# Altium footprint library TEST&JUMPER.PcbLib: 47 footprints (part 3 of 3)
Each footprint in its own frame and in the unit in brackets; x right, y up, seen from the top. Pads: shape width x height; smd on the part's side, far side on the other; paste and mask are expansions set on the pad; w line width, h text height; cw(c..) or ccw(c..) is an arc to the next point about the centre after c.
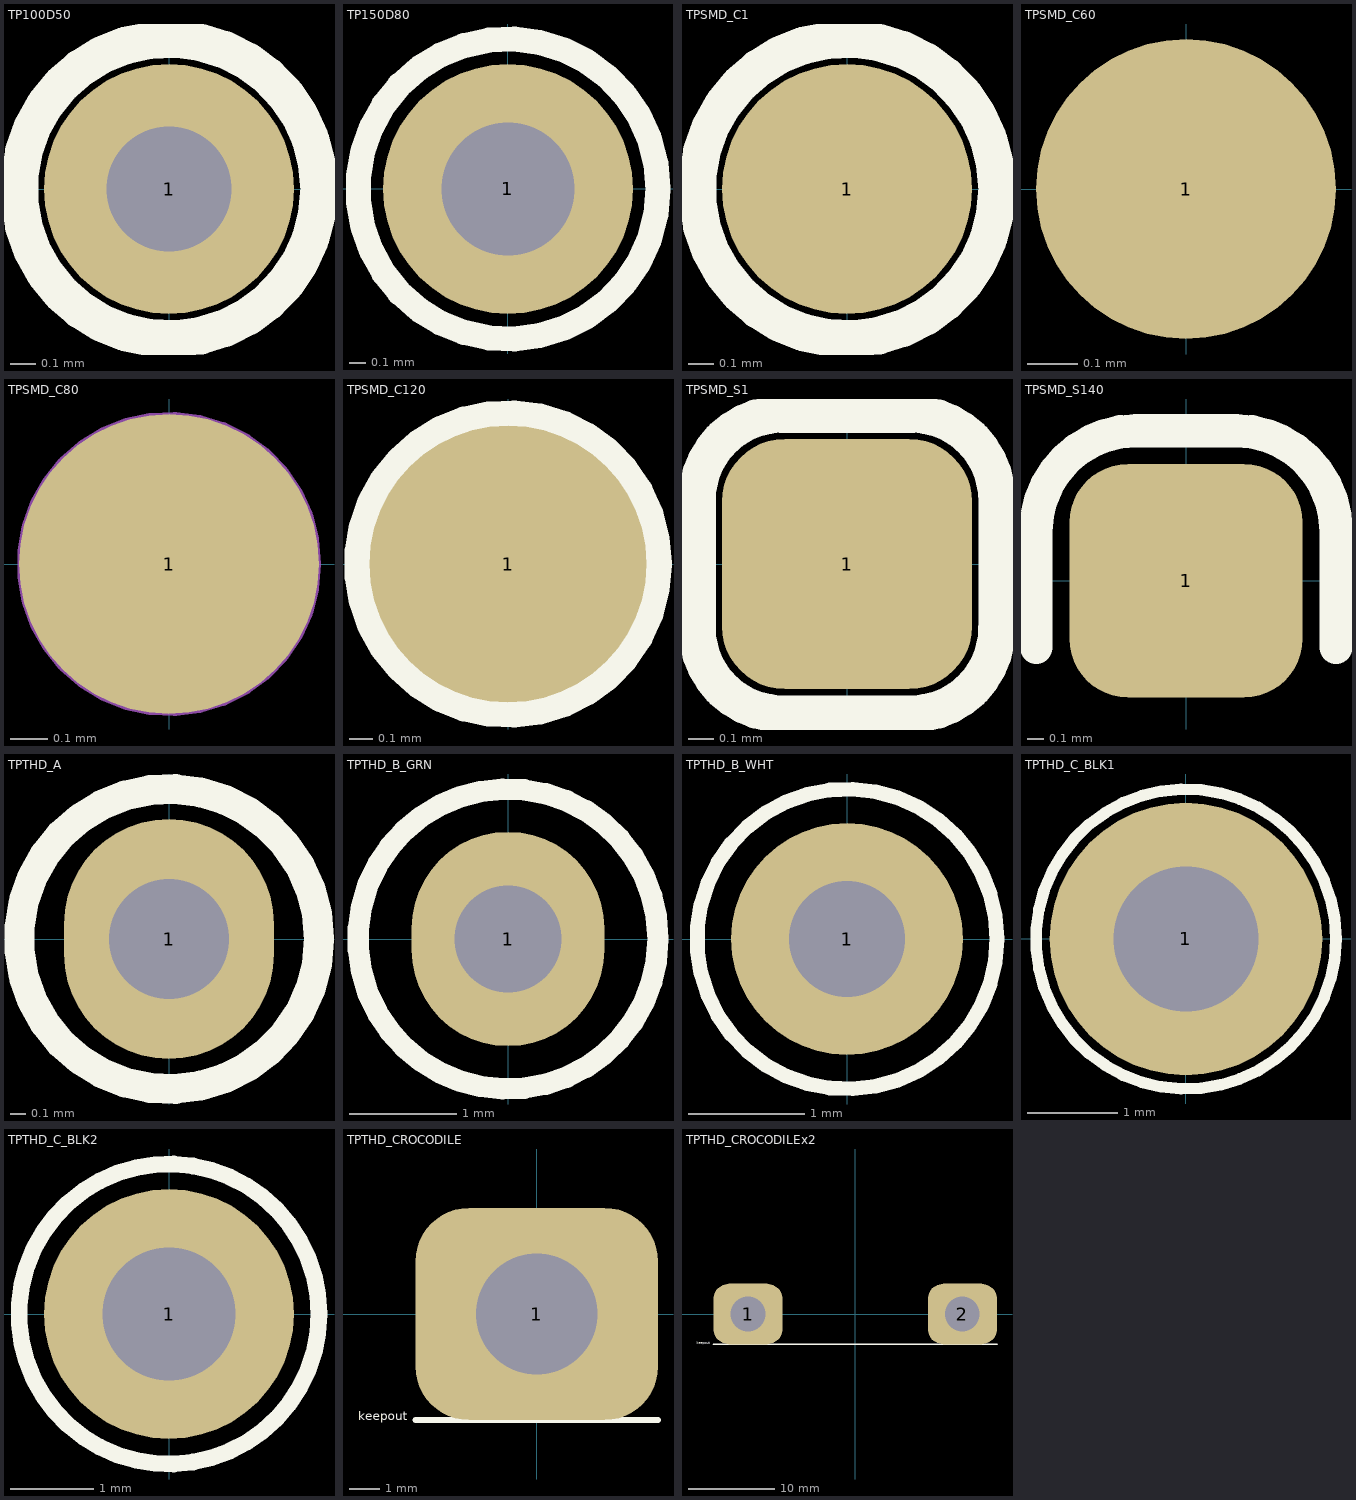
[diagram p2: the footprints below, top view; thin cyan lines are the x and y axes]

## TP100D50 [mm]
pads (1):
  round 1 hole 0.5 mask+0.025: 1(0,0)
Top Overlay:
  circle w0.15: c0,0 r0.6

## TP150D80 [mm] "TEST POINT 1.5mm WITH 0.8 mm Hole Diameter"
pads (1):
  round 1.5 hole 0.8 mask+0.075: 1(0,0)
Top Overlay:
  circle w0.15: c0,0 r0.9

## TPSMD_C1 [mm] "Test Point, SMD Pad, Circle, 1mm X 1mm"
pads (1):
  round 1 smd paste-1.016 mask+0.025: 1(0,0)
Top Overlay:
  circle w0.15: c0,0 r0.6

## TPSMD_C60 [mm] "Test Point, SMD Pad, Circle, 0.6mm X 0.6mm"
pads (1):
  round 0.6 smd paste-0.635 mask+0.051: 1(0,0)

## TPSMD_C80 [mm] "Test Point, SMD Pad, Circle, 0.8mm X 0.8mm"
pads (1):
  round 0.8 smd paste-0.762 mask+0.076: 1(0,0)
Mechanical 13:
  circle w0.05: c0,0 r0.381

## TPSMD_C120 [mm] "Test Point, SMD Pad, Circle, 1.2mm X1.2mm"
height 7.62
pads (1):
  round 1.2 smd paste-3 mask+0: 1(0,0)
Top Overlay:
  circle w0.12: c0,0 r0.65

## TPSMD_S1 [mm] "Test Point, SMD Pad, Circle, 1mm X 1mm"
pads (1):
  rrect50% 1x1 smd paste-1.016 mask+0.025: 1(0,0)
Top Overlay:
  lines w0.15: -0.6,-0.259 ccw(c-0.259,-0.259) -0.259,-0.6 0.259,-0.6 ccw(c0.259,-0.259) 0.6,-0.259 0.6,0.259 ccw(c0.259,0.259) 0.259,0.6 -0.259,0.6 ccw(c-0.259,0.259) -0.6,0.259 -0.6,-0.259

## TPSMD_S140 [mm] "Test Point, SMD Pad, Square, 1.4mm X1.4mm"
height 2
pads (1):
  rrect50% 1.4x1.4 smd paste-3 mask+0.1: 1(0,0)
Top Overlay:
  lines w0.2: -0.9,-0.4 -0.9,0.3 cw(c-0.3,0.3) -0.3,0.9 0.3,0.9 cw(c0.3,0.3) 0.9,0.3 0.9,-0.4

## TPTHD_A [mm] "TEST POINT, SMALLEST SIZE"
pads (1):
  oval 1.4x1.6 hole 0.8: 1(0,0)
Top Overlay:
  circle w0.2: c0,0 r1
3D body "SW3DPS-TEST POINT-DEFAULT.step": height 6.5, standoff -3, extent -0.5,-0.5 0.5,0.5

## TPTHD_B_GRN [mm] "TEST POINT KEYSTONE 2.5mm WITH 1 mm Hole Diameter"
pads (1):
  oval 1.8x2 hole 1 mask+0.1: 1(0,0)
Top Overlay:
  circle w0.2: c0,0 r1.4
3D body "User Library-Test Point Keystone - 5116 GREEN.STEP": height 4.67, standoff -2.95, extent -1.27,-1.27 1.27,1.27

## TPTHD_B_WHT [mm] "TEST POINT KEYSTONE 2.5mm WITH 1 mm Hole Diameter"
height 4.6
pads (1):
  round 2 hole 1: 1(0,0)
Top Overlay:
  circle w0.127: c0,0 r1.295
Mechanical 13:
  circle w0.076: c0,0 r0.76
3D body "TestPoint_Mini.stp": height 4.58, standoff -3, extent -1.24,-1.247 1.25,1.248

## TPTHD_C_BLK1 [mm] "Thru-hole test point loop, 1.6mm Hole"
height 8.1
pads (1):
  round 3 hole 1.6: 1(0,0)
Top Overlay:
  circle w0.127: c0,0 r1.651
Mechanical 13:
  circle w0.076: c0,0 r0.76
3D body "TestPoint_Multi.stp": height 8.09, standoff -3.21, extent -1.597,-1.6 1.597,1.587

## TPTHD_C_BLK2 [mm] "Thru-hole test point loop, 1.6mm Hole"
pads (1):
  round 3 hole 1.6: 1(0,0)
Top Overlay:
  circle w0.2: c0,0 r1.8
3D body "User Library-testpoint.step": height 5.65, standoff -3.23, extent -1.587,-1.585 1.588,1.59

## TPTHD_CROCODILE [mm] "TEST POINT, CROCODILE"
pads (1):
  rrect50% 8x7 hole 4: 1(0,0)
Top Overlay:
  lines w0.2: -4,-3.5 4,-3.5
  text "keepout" at -5.9,-3.6 h0.5
3D body "Crocodile Clip.STEP": height 28.5, standoff -6.65, extent -2.71,-9.4 2.89,-0.178

## TPTHD_CROCODILEx2 [mm] "TEST POINT, CROCODILE"
pads (2):
  rrect50% 8x7 hole 4: 1(-12.4,0) 2(12.4,0)
Top Overlay:
  lines w0.2: -16.4,-3.5 16.4,-3.5
  text "keepout" at -18.3,-3.6 h0.5
3D body "Crocodile Clip.STEP": height 28.5, standoff -6.65, extent 9.69,-9.4 15.29,-0.178
3D body "Crocodile Clip.STEP": height 28.5, standoff -6.65, extent -15.11,-9.4 -9.51,-0.178